# Altium footprint library Светодиоды.PcbLib: 31 footprints (part 1 of 2)
Each footprint in its own frame and in the unit in brackets; x right, y up, seen from the top. Pads: shape width x height; smd on the part's side, far side on the other; paste and mask are expansions set on the pad; w line width, h text height; cw(c..) or ccw(c..) is an arc to the next point about the centre after c.
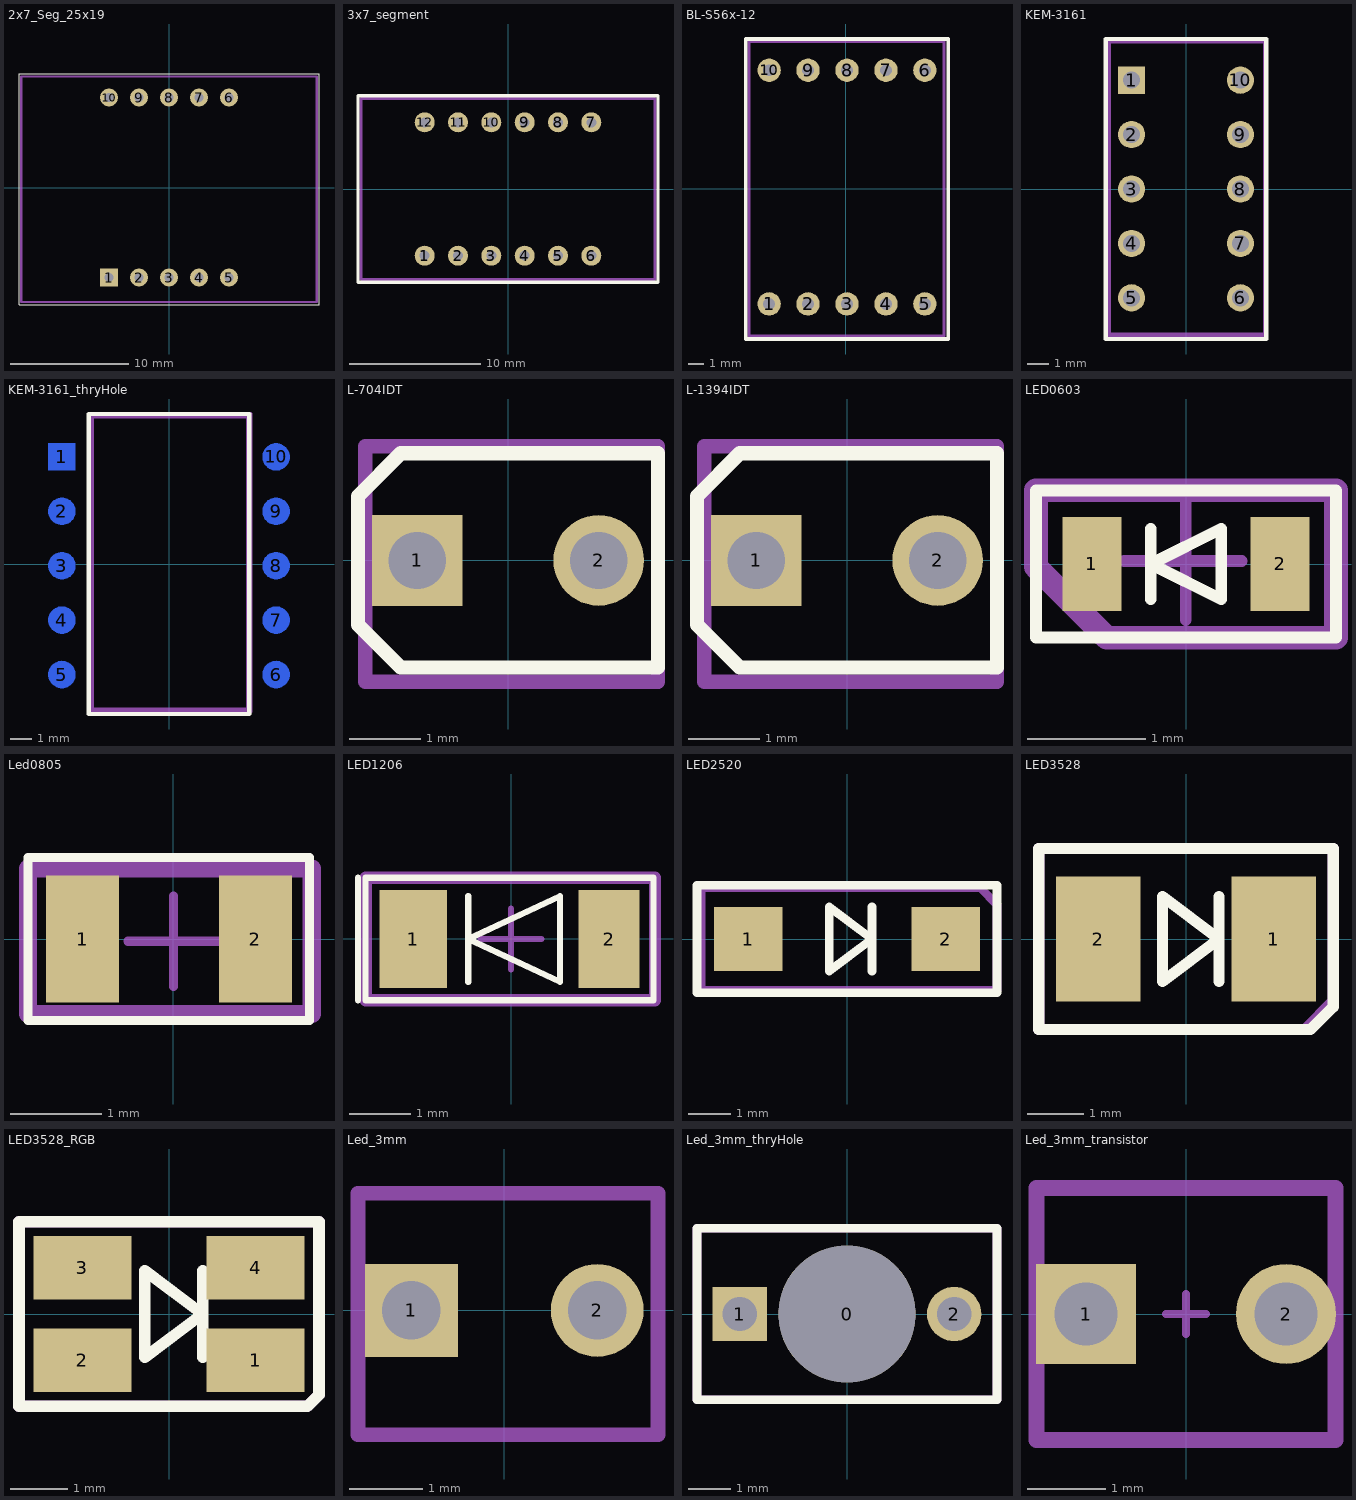
[diagram p0: the footprints below, top view; thin cyan lines are the x and y axes]

## 2x7_Seg_25x19 [mil]
pads (10):
  rect 60x60 hole 30: 1(-200,-300)
  round 60 hole 30: 2(-100,-300) 3(0,-300) 4(100,-300) 5(200,-300) 6(200,300) 7(100,300) 8(0,300) 9(-100,300) 10(-200,300)
Top Overlay:
  lines w3.94: -500,-390 -500,380 500,380 500,-390 -500,-390
Top Assy:
  lines w7.87: -492.13,-381.89 -492.13,370.08 492.13,370.08 492.13,-381.89 -492.13,-381.89
  text ".Designator" at -322.83,-11.81 h60
3D body "2x7_Seg_25x19.STEP": height 275.59, standoff -145.67, extent -492.12,-378.43 492.12,370

## 3x7_segment [mil]
pads (12):
  round 60 hole 30: 1(-250,-200) 2(-150,-200) 3(-50,-200) 4(50,-200) 5(150,-200) 6(250,-200) 7(250,200) 8(150,200) 9(50,200) 10(-50,200) 11(-150,200) 12(-250,200)
Top Overlay:
  lines w10: -450,-280 450,-280 450,280 -450,280 -450,-280
Top Assy:
  lines w7.87: -440.94,-271.65 -440.94,271.65 440.94,271.65 440.94,-271.65 -440.94,-271.65
  text ".Designator" at -370.08,-7.87 h60
3D body "SW3dPS-atd-036ab.STEP": height 283.66, standoff -120, extent -444.88,-277.56 444.89,277.56

## BL-S56x-12 [mil]
pads (10):
  round 60 hole 30: 1(-196.85,-295.28) 2(-96.85,-295.28) 3(3.15,-295.28) 4(103.15,-295.28) 5(203.15,-295.28) 6(203.15,304.72) 7(103.15,304.72) 8(3.15,304.72) 9(-96.85,304.72) 10(-196.85,304.72)
Top Overlay:
  lines w10: -256.85,-385.28 263.15,-385.28 263.15,384.72 -256.85,384.72 -256.85,-385.28
Top Assy:
  lines w7.87: -248.03,-377.95 -248.03,377.95 251.97,377.95 251.97,-377.95 -248.03,-377.95
  text ".Designator" at -192.91,7.87 h60
3D body "7-Segment.step": height 314.96, standoff -248.03, extent -244.88,-369.29 251.19,378.75

## KEM-3161 [mm]
pads (10):
  rect 1.27x1.27 hole 0.8: 1(-2.54,5.08)
  round 1.27 hole 0.8: 2(-2.54,2.54) 3(-2.54,0) 4(-2.54,-2.54) 5(-2.54,-5.08) 6(2.54,-5.08) 7(2.54,-2.54) 8(2.54,0) 9(2.54,2.54) 10(2.54,5.08)
Top Overlay:
  lines w0.2: -3.75,-7 -3.75,7 3.75,7 3.75,-7 -3.75,-7
Top Assy:
  lines w0.2: -3.6,-6.8 3.7,-6.8 3.7,6.9 -3.6,6.9 -3.6,-6.8
  text ".Designator" at -3.2,-5.5 h1.52
3D body "KEM-3161.STEP": height 8.5, standoff -5.8, extent -3.75,-7 3.75,7

## KEM-3161_thryHole [mm]
pads (10):
  rect 1.27x1.27 smd far side: 1(-5,5)
  round 1.27 smd far side: 2(-5,2.46) 3(-5,-0.08) 4(-5,-2.62) 5(-5,-5.16) 6(5,-5.16) 7(5,-2.62) 8(5,-0.08) 9(5,2.46) 10(5,5)
Top Overlay:
  lines w0.2: -3.75,-7 3.75,-7 3.75,7 -3.75,7 -3.75,-7
Board:
  lines w0.2: -3.7,-6.9 3.8,-6.9 3.8,7 -3.7,7 -3.7,-6.9
Top Assy:
  lines w0.2: -3.6,-6.8 -3.6,6.9 3.7,6.9 3.7,-6.8 -3.6,-6.8
  text ".Designator" at -3.2,-5.5 h1.52
3D body "KEM-3161.STEP": height 0, standoff -14.3, extent -3.75,-7 3.75,7

## L-704IDT [mm]
pads (2):
  rect 1.27x1.27 hole 0.8: 1(-1.27,0)
  round 1.27 hole 0.8: 2(1.27,0)
Top Overlay:
  lines w0.2: -2.1,-0.9 -1.5,-1.5 2.1,-1.5 2.1,1.5 -1.5,1.5 -2.1,0.9 -2.1,-0.9
Top Assy:
  lines w0.2: -2,-1.7 -2,1.6 2.1,1.6 2.1,-1.7 -2,-1.7
  text ".Designator" at -1.6,-0.4 h1.52
3D body "L-704IDT.stp": height 9, standoff -1.1, extent -2,-1.5 2,1.5

## L-1394IDT [mm]
pads (2):
  rect 1.27x1.27 hole 0.8: 1(-1.27,0)
  round 1.27 hole 0.8: 2(1.27,0)
Top Overlay:
  lines w0.2: -2.1,-0.9 -2.1,0.9 -1.5,1.5 2.1,1.5 2.1,-1.5 -1.5,-1.5 -2.1,-0.9
Top Assy:
  lines w0.2: -2,-1.7 2.1,-1.7 2.1,1.6 -2,1.6 -2,-1.7
  text ".Designator" at -1.6,-0.4 h1.52
3D body "L-1394IDT.stp": height 9, standoff -2, extent -1.6,-1.6 1.6,1.6

## LED0603 [mm]
pads (2):
  rect 0.5x0.8 smd: 1(-0.8,0) 2(0.8,0)
Top Overlay:
  lines w0.1: -0.3,-0.3 -0.3,0.3 ; -1.275,-0.625 -1.275,0.625 1.275,0.625 1.275,-0.625 -1.275,-0.625 ; -0.3,0 0.3,0.3 0.3,-0.3 -0.3,0
Top Assy:
  lines w0.2: -1.275,-0.025 -1.275,0.625 1.275,0.625 1.275,-0.625 -0.675,-0.625 -1.275,-0.025
  text ".Designator" at -1.05,-0.425 h1.52
Mechanical 15:
  lines w0.1: -0.527,0.025 0.473,0.025 ; -0.002,-0.475 -0.002,0.525
3D body "LED0603.STEP": height 0.6, standoff 0, extent -0.81,-0.4 0.81,0.4

## Led0805 [mm]
pads (2):
  rect 0.8x1.4 smd: 1(-1,0) 2(0.905,0)
Top Overlay:
  lines w0.1: -1.6,-0.9 -1.6,0.9 1.5,0.9 1.5,-0.9 -1.6,-0.9
Top Assy:
  lines w0.2: -1.6,-0.825 1.525,-0.825 1.525,0.775 -1.6,0.775 -1.6,-0.825
  text ".Designator" at -1.5,-0.525 h1.52
Mechanical 15:
  lines w0.1: -0.5,-0.025 0.5,-0.025 ; 0,-0.525 0,0.475
3D body "LED0805.STEP": height 1.1, standoff 0, extent -1.01,-0.625 1.01,0.625

## LED1206 [mm]
pads (2):
  rect 1.1x1.6 smd: 1(-1.6,0)
  rect 1x1.6 smd: 2(1.6,0)
Top Overlay:
  lines w0.1: -2.5,-1 -2.5,1 ; -0.7,-0.7 -0.7,0.7 ; -2.375,-1 -2.375,1 2.325,1 2.325,-1 -2.375,-1 ; -0.7,0 0.8,0.7 0.8,-0.7 -0.7,0
Top Assy:
  lines w0.2: -2.375,-1 -2.375,1 2.35,1 2.35,-1 -2.375,-1
  text ".Designator" at -2.1,-0.5 h1.52
Mechanical 15:
  lines w0.1: -0.5,0 0.5,0 ; 0,-0.5 0,0.5
3D body "LED 1206 RED.step": height 1.1, standoff 0, extent -1.6,-0.8 1.6,0.8

## LED2520 [mm]
pads (2):
  rect 1.6x1.5 smd: 1(-2.3,0) 2(2.3,0)
Top Overlay:
  lines w0.2: 0.583,-0.75 0.583,0.75 ; -3.5,-1.25 -3.5,1.25 3.5,1.25 3.5,-1.25 -3.5,-1.25 ; -0.417,-0.75 -0.417,0.75 0.583,0 -0.417,-0.75
Top Assy:
  lines w0.2: -3.4,-1.2 -3.4,1.2 3.1,1.2 3.5,0.8 3.5,-1.2 -3.4,-1.2
  text ".Designator" at -3.1,-0.5 h1.52

## LED3528 [mm]
pads (2):
  rect 1.5x2.2 smd: 1(1.55,0) 2(-1.55,0)
Top Overlay:
  lines w0.2: 0.583,-0.75 0.583,0.75 ; -2.6,-1.6 2.2,-1.6 2.6,-1.2 2.6,1.6 -2.6,1.6 -2.6,-1.6 ; -0.417,-0.75 0.583,0 -0.417,0.75 -0.417,-0.75
Top Assy:
  lines w0.2: -2.6,-1.6 2.1,-1.6 2.6,-1.1 2.6,1.6 -2.6,1.6 -2.6,-1.6
  text ".Designator" at -2.2,-0.3 h1.52
3D body "Led_3528_SingleColor.step": height 1.9, standoff 0, extent -1.75,-1.4 1.75,1.4

## LED3528_RGB [mm]
pads (4):
  rect 1.7x1.1 smd: 1(1.5,-0.8) 2(-1.5,-0.8) 3(-1.5,0.8) 4(1.5,0.8)
Top Overlay:
  lines w0.2: 0.583,-0.75 0.583,0.75 ; -2.6,-1.6 2.4,-1.6 2.6,-1.4 2.6,1.6 -2.6,1.6 -2.6,-1.6 ; -0.417,-0.75 0.583,0 -0.417,0.75 -0.417,-0.75
Top Assy:
  lines w0.2: -2.6,-1.6 2.4,-1.6 2.6,-1.4 2.6,1.6 -2.6,1.6 -2.6,-1.6
  text ".Designator" at -2.2,-0.3 h1.52
3D body "LED 3528 RGB.step": height 1.9, standoff 0, extent -1.75,-1.4 1.75,1.4

## Led_3mm [mm]
pads (2):
  rect 1.27x1.27 hole 0.8: 1(-1.27,0)
  round 1.27 hole 0.8: 2(1.27,0)
Top Assy:
  lines w0.2: -2,-1.7 2.1,-1.7 2.1,1.6 -2,1.6 -2,-1.7
  text ".Designator" at -1.6,-0.4 h1.52
3D body "Led 3mm white.STEP": height 4.98, standoff -2.5, extent -1.549,-1.644 1.664,1.653

## Led_3mm_thryHole [mm]
pads (3):
  round 3.2 hole 3.2 unplated: 0(0,0)
  rect 1.27x1.27 hole 0.8: 1(-2.5,0)
  round 1.27 hole 0.8: 2(2.5,0)
Top Overlay:
  lines w0.2: -3.5,-2 -3.5,2 3.5,2 3.5,-2 -3.5,-2
Top Assy:
  lines w0.2: -3.5,-2 -3.5,2 3.5,2 3.5,-2 -3.5,-2
  text ".Designator" at -1.6,-0.4 h1.52
3D body "Led 3mm white.STEP": height 2.98, standoff -4.5, extent -1.549,-1.644 1.664,1.653

## Led_3mm_transistor [mm]
pads (2):
  rect 1.27x1.27 hole 0.8: 1(-1.27,0)
  round 1.27 hole 0.8: 2(1.27,0)
Top Assy:
  lines w0.2: -1.9,-1.6 1.9,-1.6 1.9,1.6 -1.9,1.6 -1.9,-1.6
  text ".Designator" at -1.5,-0.3 h1.52
Mechanical 15:
  lines w0.1: -0.254,0 0.254,0 ; 0,-0.254 0,0.254
3D body "Led 3mm black.STEP": height 4.98, standoff -2.5, extent -1.664,-1.653 1.549,1.644